# Altium schematic symbol library SCH - FET - P-CH - INFINEON PG-TO263-7-3.Schlib: 1 symbol
Pins are listed as number, name and electrical type; pins without a type are passive.

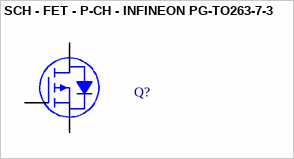
[diagram p0: symbol SCH - FET - P-CH - INFINEON PG-TO263-7-3]

## SCH - FET - P-CH - INFINEON PG-TO263-7-3
designator Q?
footprint PG-TO263-7-3
pins: 1 G, 2 S, 3 S, 4 D, 5 S, 6 S, 7 S, 8 D